# Altium integrated library MIC127-140-A01.IntLib: 1 symbol
Pins are listed as number, name and electrical type; pins without a type are passive.

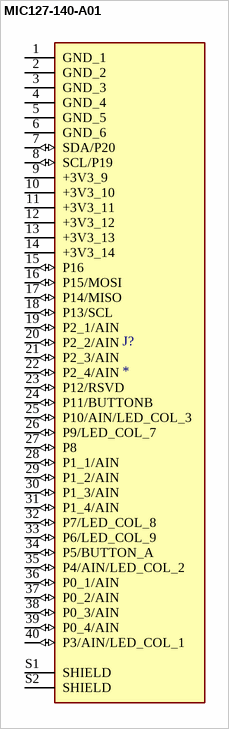
[diagram p0: symbol MIC127-140-A01]

## MIC127-140-A01
designator J?
40-pins Micro Bit-connector, SMT; MP: MIC127-140-A01; Package: None; Price: None; Value: *; Availability: Unavailable
footprint DONGGUAN_MIC127-140-A01
pins: 1 GND_1 (power), 2 GND_2 (power), 3 GND_3 (power), 4 GND_4 (power), 5 GND_5 (power), 6 GND_6 (power), 7 SDA/P20 (io), 8 SCL/P19 (io), 9 +3V3_9 (power), 10 +3V3_10 (power), 11 +3V3_11 (power), 12 +3V3_12 (power), 13 +3V3_13 (power), 14 +3V3_14 (power), 15 P16 (io), 16 P15/MOSI (io), 17 P14/MISO (io), 18 P13/SCL (io), 19 P2_1/AIN (io), 20 P2_2/AIN (io), 21 P2_3/AIN (io), 22 P2_4/AIN (io), 23 P12/RSVD (io), 24 P11/BUTTONB (io), 25 P10/AIN/LED_COL_3 (io), 26 P9/LED_COL_7 (io), 27 P8 (io), 28 P1_1/AIN (io), 29 P1_2/AIN (io), 30 P1_3/AIN (io), 31 P1_4/AIN (io), 32 P7/LED_COL_8 (io), 33 P6/LED_COL_9 (io), 34 P5/BUTTON_A (io), 35 P4/AIN/LED_COL_2 (io), 36 P0_1/AIN (io), 37 P0_2/AIN (io), 38 P0_3/AIN (io), 39 P0_4/AIN (io), 40 P3/AIN/LED_COL_1 (io), S1 SHIELD, S2 SHIELD